# Altium schematic symbol library HL.SchLib: 1 symbol
Pins are listed as number, name and electrical type; pins without a type are passive.

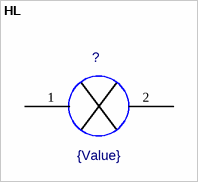
[diagram p0: symbol HL]

## HL
designator ?  value {Value}  (hidden comment: *)
footprint HL
pins: 1, 2